# EAGLE library part LED-10-SEG (library Seeed-Display)
304080004
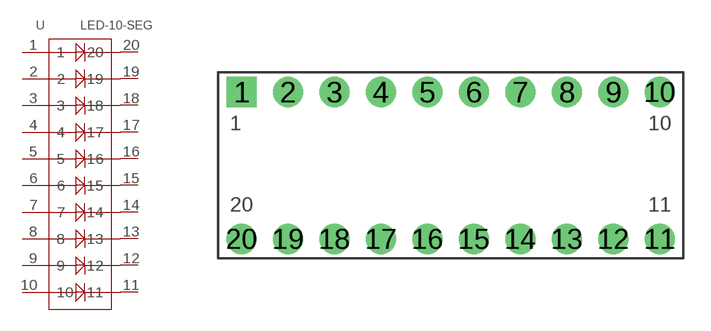
[diagram p1: symbol with the pads of LED-10X2P-2.54-25.5X10.1X8.4MM; footprint LED-10X2P-2.54-25.5X10.1X8.4MM]

Designator prefix U

## LED-10-SEG'SB1K1Y8G'  [LED-10X2P-2.54-25.5X10.1X8.4MM]
1  1
2  2
3  3
4  4
5  5
6  6
7  7
8  8
9  9
10  10
11  11
12  12
13  13
14  14
15  15
16  16
17  17
18  18
19  19
20  20

## Footprint LED-10X2P-2.54-25.5X10.1X8.4MM (pad centres in mm)
drill 0.889 pad 1.651 square: 1 -11.43,4.013
drill 0.889 pad 1.651: 2 -8.89,4.013; 3 -6.35,4.013; 4 -3.81,4.013; 5 -1.27,4.013; 6 1.27,4.013; 7 3.81,4.013; 8 6.35,4.013; 9 8.89,4.013; 10 11.43,4.013; 11 11.43,-4.013; 12 8.89,-4.013; 13 6.35,-4.013; 14 3.81,-4.013; 15 1.27,-4.013; 16 -1.27,-4.013; 17 -3.81,-4.013; 18 -6.35,-4.013; 19 -8.89,-4.013; 20 -11.43,-4.013